# Altium schematic symbol library LTC5594.SchLib: 1 symbol
Pins are listed as number, name and electrical type; pins without a type are passive.

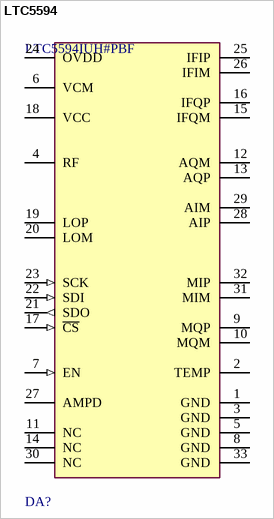
[diagram p0: symbol LTC5594]

## LTC5594
designator DA?, comment LTC5594IUH#PBF
RF DEMOD IC 300MHZ-9GHZ 32QFN; RoHS Compliant: Yes
footprint FP-UH-32-05-08-1693-IPC_C
footprint FP-UH-32-05-08-1693-MFG
footprint FP-UH-32-05-08-1693-IPC_B
footprint FP-UH-32-05-08-1693-IPC_A
pins: 1 GND (power), 2 TEMP, 3 GND (power), 4 RF, 5 GND (power), 6 VCM (power), 7 EN (in), 8 GND (power), 9 MQP, 10 MQM, 11 NC, 12 AQM, 13 AQP, 14 NC, 15 IFQM, 16 IFQP, 17 ~{CS} (in), 18 VCC, 19 LOP, 20 LOM, 21 SDO (out), 22 SDI (in), 23 SCK (in), 24 OVDD (power), 25 IFIP, 26 IFIM, 27 AMPD, 28 AIP, 29 AIM, 30 NC, 31 MIM, 32 MIP, 33 GND (power)